# Altium footprint library Header 2.54 x 11.PcbLib: 1 footprints
Each footprint in its own frame and in the unit in brackets; x right, y up, seen from the top. Pads: shape width x height; smd on the part's side, far side on the other; paste and mask are expansions set on the pad; w line width, h text height; cw(c..) or ccw(c..) is an arc to the next point about the centre after c.
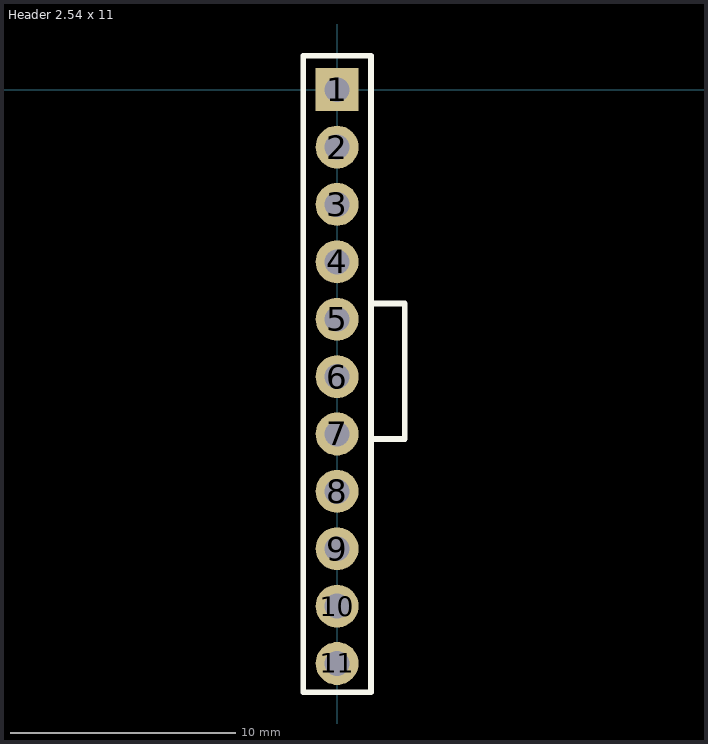
[diagram p0: the footprint, top view; thin cyan lines are the x and y axes]

## Header 2.54 x 11 [mm]
pads (11):
  rect 1.9x1.9 hole 1.1: 1(0,0)
  round 1.9 hole 1.1: 2(0,-2.54) 3(0,-5.08) 4(0,-7.62) 5(0,-10.16) 6(0,-12.7) 7(0,-15.24) 8(0,-17.78) 9(0,-20.32) 10(0,-22.86) 11(0,-25.4)
Top Overlay:
  lines w0.254: 1.5,-15.46 3,-15.46 3,-9.46 1.5,-9.46 ; -1.5,-26.67 1.5,-26.67 1.5,1.5 -1.5,1.5 -1.5,-26.67